# Altium schematic symbol library 24c02_sot23_5.SchLib: 7 symbols
Pins are listed as number, name and electrical type; pins without a type are passive.

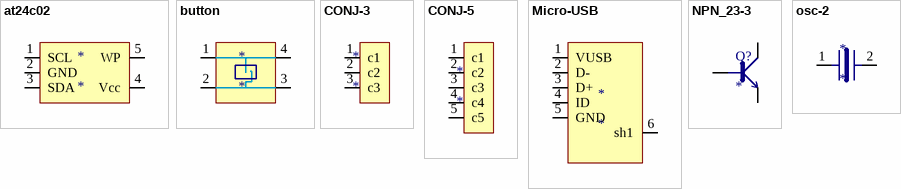
[diagram p0: symbols at24c02 to osc-2]

## at24c02
designator *
pins: 1 SCL, 2 GND, 3 SDA, 4 Vcc, 5 WP

## button
designator *
pins: 1 a1, 2 b1, 3 b2, 4 a2

## CONJ-3
designator *
pins: 1 c1, 2 c2, 3 c3

## CONJ-5
designator *
pins: 1 c1, 2 c2, 3 c3, 4 c4, 5 c5

## Micro-USB
designator *
pins: 1 VUSB, 2 D-, 3 D+, 4 ID, 5 GND, 6 sh1

## NPN_23-3
designator Q?
footprint sot23-3 (SOT-23; 3 Leads; Body 3.0 x 2.5 mm, inc. leads (LxW max))
pins: 1, 2, 3

## osc-2
designator *
pins: 1 c6, 2 c7